# Altium footprint library heatsink.PCBLIB: 35 footprints (part 2 of 3)
Each footprint in its own frame and in the unit in brackets; x right, y up, seen from the top. Pads: shape width x height; smd on the part's side, far side on the other; paste and mask are expansions set on the pad; w line width, h text height; cw(c..) or ccw(c..) is an arc to the next point about the centre after c.
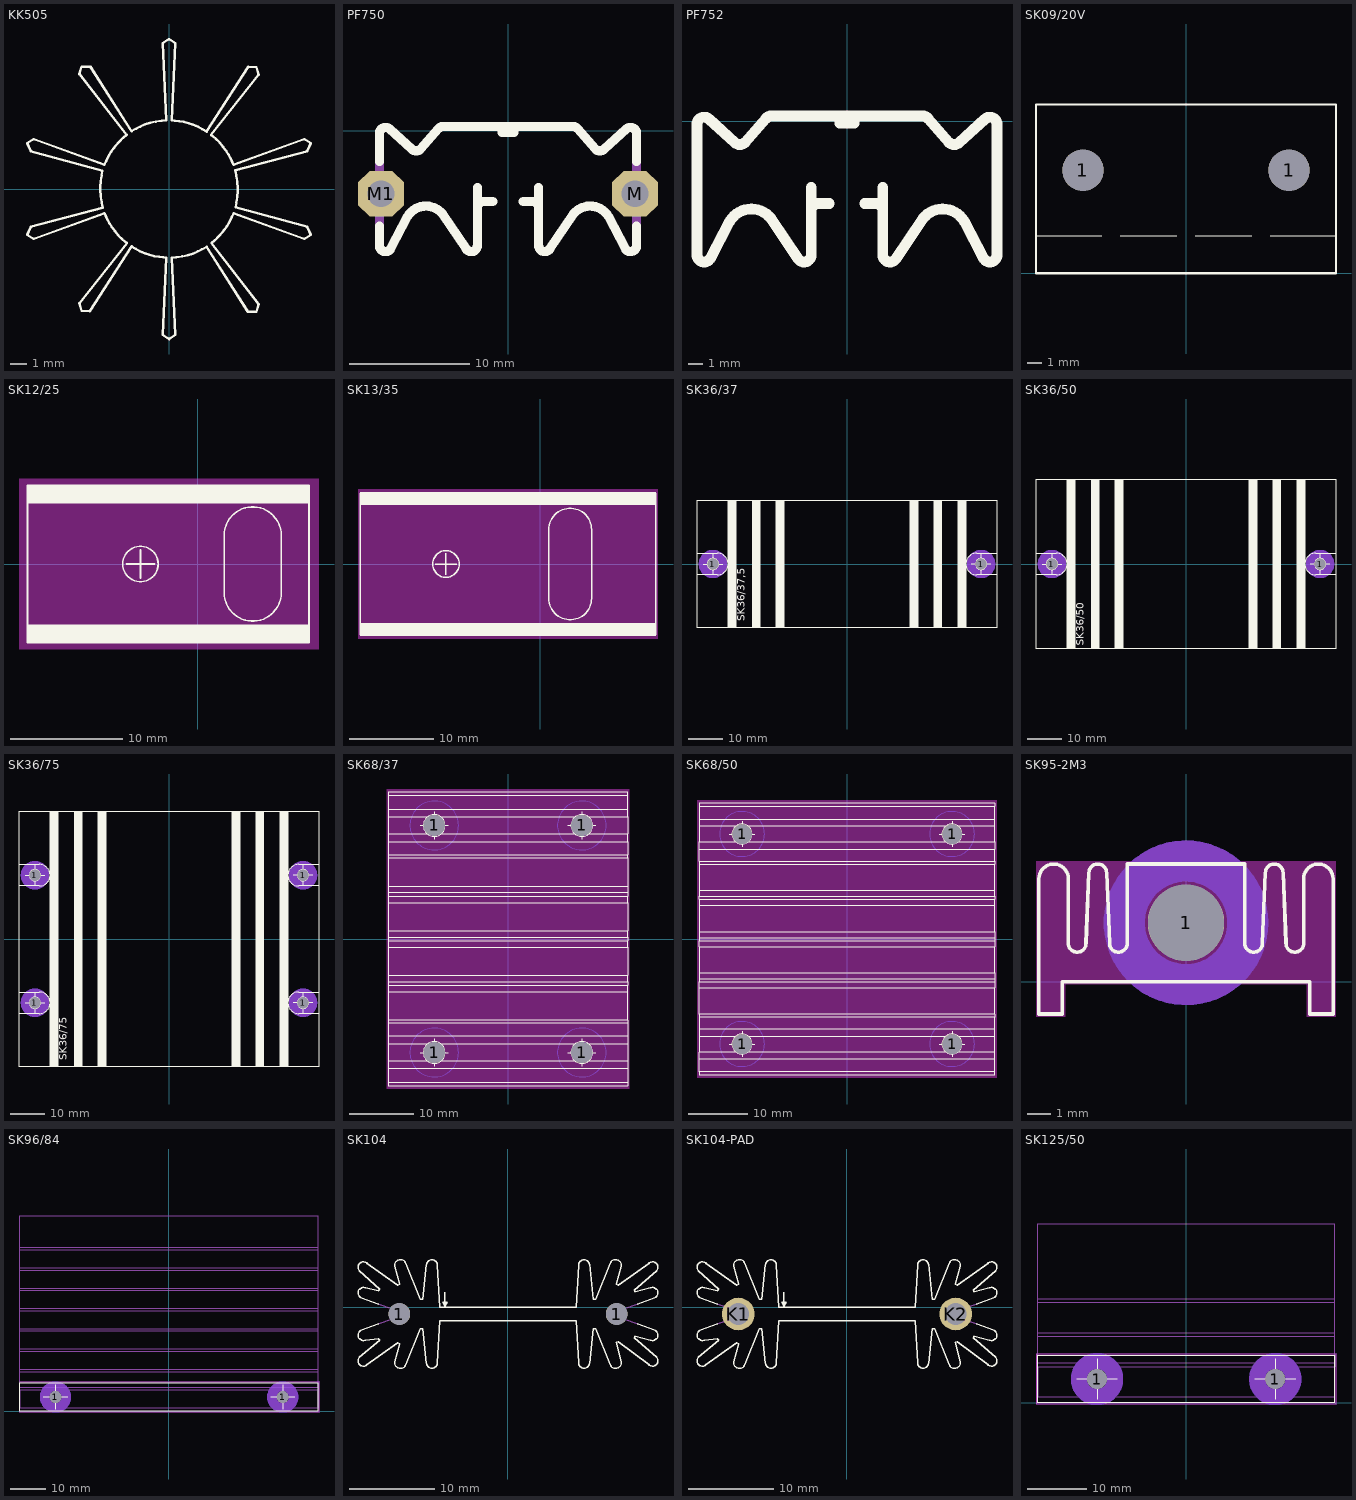
[diagram p1: the footprints below, top view; thin cyan lines are the x and y axes]

## KK505 [mil]
Top Overlay:
  lines w6: -340,-110 -325,-120 -155,-58 -152,-64 -148,-73 -143,-82 -137,-92 -130,-101 -122,-111 -112,-121 -101,-130 -215,-274 -210,-292 -190,-293 -90,-138 -80,-144 -70,-149 -58,-154 -47,-158 -35,-161 -24,-163 -14,-164 -7,-165 -15,-350 0,-360 15,-350 7,-165 17,-164 32,-162 45,-159 57,-155 69,-150 79,-145 90,-139 189,-294 210,-294 215,-276 102,-130 110,-123 120,-113 129,-103 139,-89 146,-77 151,-67 155,-58 325,-120 340,-110 332,-91 160,-44 162,-32 164,-18 165,-6 165,2 164,17 162,31 160,40 159,45 332,91 340,110 325,120 155,58 152,64 148,73 143,82 137,92 130,101 122,111 112,121 101,130 215,274 210,292 190,293 90,138 80,144 70,149 58,154 47,158 35,161 24,163 14,164 7,165 15,350 0,360 -15,350 -7,165 -17,164 -32,162 -45,159 -57,155 -69,150 -79,145 -90,139 -189,294 -210,294 -215,276 -102,130 -110,123 -120,113 -129,103 -139,89 -146,77 -151,67 -155,58 -325,120 -340,110 -332,91 -160,44 -162,32 -164,18 -165,6 -165,-2 -164,-17 -162,-31 -160,-40 -159,-45 -332,-91 -340,-110

## PF750 [mil]
pads (2):
  oct 150x150 hole 87: M(415,-205) M1(-415,-205)
Top Overlay:
  lines w30: -420,-310 -420,-373.94 ccw(c-399.99,-373.94) -383.35,-385.04 -327.8,-278.95 cw(c-268.03,-315.4) -212.84,-272.35 -136.64,-385.04 ccw(c-120,-373.94) -99.99,-373.94 -100,-185 ; -420,-100 -420,-8.28 cw(c-400,-8.28) -385.86,5.86 -314.14,-59.14 ccw(c-300,-45) -285.86,-59.14 -226.57,8.21 cw(c-211.55,-5) -211.56,15 211.56,15 cw(c211.55,-5) 226.57,8.21 285.86,-59.14 ccw(c300,-45) 314.14,-59.14 385.86,5.86 cw(c400,-8.28) 420,-8.28 420,-100 ; -100,-250 cw(c-80,-250) -80,-230 -50,-230 ; -20,10 -20,-5 20,-5 20,10 ; 50,-230 80,-230 cw(c80,-250) 100,-250 ; 100,-185 100,-373.94 ccw(c120,-373.95) 136.63,-385.04 212.84,-272.35 cw(c268.03,-315.4) 327.79,-278.95 383.36,-385.04 ccw(c399.99,-373.94) 419.99,-373.94 420,-310
Mechanical 16:
  lines w30: -420,-310 -420,-100 ; 420,-310 420,-100

## PF752 [mil]
Top Overlay:
  lines w30: -100,-250 cw(c-80,-250) -80,-230 -50,-230 ; -100,-185 -100,-373.94 cw(c-120,-373.94) -136.64,-385.04 -212.84,-272.35 ccw(c-268.03,-315.4) -327.79,-278.95 -383.36,-385.04 cw(c-399.99,-373.94) -420,-373.94 -420,-8.28 cw(c-400,-8.28) -385.86,5.86 -314.14,-59.14 ccw(c-300,-45) -285.86,-59.14 -226.57,8.21 cw(c-211.55,-5) -211.56,15 211.56,15 cw(c211.55,-5) 226.57,8.21 285.86,-59.14 ccw(c300,-45) 314.14,-59.14 385.86,5.86 cw(c400,-8.28) 420,-8.28 420,-373.94 cw(c399.99,-373.94) 383.36,-385.04 327.8,-278.95 ccw(c268.03,-315.4) 212.84,-272.35 136.64,-385.04 cw(c120,-373.95) 100,-373.94 100,-185 ; -20,10 -20,-5 20,-5 20,10 ; 50,-230 80,-230 cw(c80,-250) 100,-250

## SK09/20V [mil]
pads (2):
  round 110 hole 110: 1(-275,275) 1(275,275)
Top Overlay:
  lines w2: -400,100 -225,100 ; -175,100 -25,100 ; 25,100 175,100 ; 225,100 400,100
  lines w6: -400,0 400,0 400,100 400,450 -400,450 -400,100 -400,0

## SK12/25 [mil]
Top Layer keep-out:
  rectangle: -625,-300 425,300
Top Overlay:
  circle w6: c-200,0 r62
  rectangle: -595,215 390,275
  rectangle: -595,-275 390,-215
  lines w6: -250,0 -150,0 ; -200,-50 -200,50 ; 93,99 93,-100 ccw(c193,-100) 293,-100 293,99 ; 93,100 cw(c193,100) 293,100 ; -595,-215 -595,-275 390,-275 390,-215 ; -595,-215 390,-215 ; -595,-215 -595,215 ; -595,215 -595,275 390,275 390,215 ; -595,215 390,215 ; 390,-215 390,215
Via Holes:
  rectangle: -625,-300 425,300

## SK13/35 [mil]
Top Layer keep-out:
  rectangle: -850,-350 550,350
Top Overlay:
  circle w6: c-440,0 r62
  rectangle: -840,-335 540,-275
  rectangle: -840,275 540,335
  lines w6: -840,-330 -840,330 ; -490,0 -390,0 ; -440,-50 -440,50 ; 540,-330 540,330 ; 40,-160 40,160 cw(c140,160) 240,160 240,-160 cw(c140,-160) 40,-160
Via Holes:
  rectangle: -850,-350 550,350

## SK36/37 [mil]
pads (2):
  round 130 hole 130: 1(-1555,0) 1(1555,0)
Bottom Layer keep-out:
  circle w100: c-1555,0 r115
  circle w100: c1555,0 r115
Top Overlay:
  circle w6: c-1555,0 r65
  circle w6: c1555,0 r65
  rectangle: -1375,-740 -1285,740
  rectangle: -1095,-740 -1005,740
  rectangle: -820,-740 -730,740
  rectangle: 730,-740 820,740
  rectangle: 1005,-740 1095,740
  rectangle: 1285,-740 1375,740
  lines w6: -1665,0 -1440,0 ; -1555,-115 -1555,115 ; 1440,0 1665,0 ; 1555,-115 1555,115 ; -1735,-125 -1735,-740 -1375,-740 ; -1735,-125 -1735,125 ; -1735,-125 -1505,-125 ccw(c-1505,0) -1505,125 -1735,125 ; -1735,125 -1735,740 -1375,740 ; -1375,-740 -1285,-740 ; -1375,-740 -1375,740 ; -1375,740 -1285,740 ; -1285,-740 -1095,-740 ; -1285,-740 -1285,740 ; -1285,740 -1095,740 ; -1095,-740 -1005,-740 ; -1095,-740 -1095,740 ; -1095,740 -1005,740 ; -1005,-740 -820,-740 ; -1005,-740 -1005,740 ; -1005,740 -820,740 ; -820,-740 -730,-740 ; -820,-740 -820,740 ; -820,740 -730,740 ; -730,-740 730,-740 ; -730,-740 -730,740 ; -730,740 730,740 ; 730,-740 820,-740 ; 730,-740 730,740 ; 730,740 820,740 ; 820,-740 1005,-740 ; 820,-740 820,740 ; 820,740 1005,740 ; 1005,-740 1095,-740 ; 1005,-740 1005,740 ; 1005,740 1095,740 ; 1095,-740 1285,-740 ; 1095,-740 1095,740 ; 1095,740 1285,740 ; 1285,-740 1375,-740 ; 1285,-740 1285,740 ; 1285,740 1375,740 ; 1375,-740 1735,-740 1735,-125 ; 1375,-740 1375,740 ; 1375,740 1735,740 1735,125 ; 1735,-125 1735,125 ; 1735,-125 1505,-125 cw(c1505,0) 1505,125 1735,125
  text "SK36/37,5" at -1150,-665 h155
Via Holes:
  lines w5: -1740,-745 -1740,745 -725,745 -725,-745 -1740,-745 ; 725,-745 725,745 1740,745 1740,-745 725,-745

## SK36/50 [mil]
pads (2):
  round 130 hole 130: 1(-1555,0) 1(1555,0)
Bottom Layer keep-out:
  circle w100: c-1555,0 r115
  circle w100: c1555,0 r115
Top Overlay:
  circle w6: c-1555,0 r65
  circle w6: c1555,0 r65
  rectangle: -1375,-985 -1285,985
  rectangle: -1095,-985 -1005,985
  rectangle: -820,-985 -730,985
  rectangle: 730,-985 820,985
  rectangle: 1005,-985 1095,985
  rectangle: 1285,-985 1375,985
  lines w6: -1665,0 -1440,0 ; -1555,-115 -1555,115 ; 1440,0 1665,0 ; 1555,-115 1555,115 ; -1735,-125 -1735,-985 -1375,-985 ; -1735,-125 -1735,125 ; -1735,-125 -1505,-125 ccw(c-1505,0) -1505,125 -1735,125 ; -1735,125 -1735,985 -1375,985 ; -1375,-985 -1285,-985 ; -1375,-985 -1375,985 ; -1375,985 -1285,985 ; -1285,-985 -1095,-985 ; -1285,-985 -1285,985 ; -1285,985 -1095,985 ; -1095,-985 -1005,-985 ; -1095,-985 -1095,985 ; -1095,985 -1005,985 ; -1005,-985 -820,-985 ; -1005,-985 -1005,985 ; -1005,985 -820,985 ; -820,-985 -730,-985 ; -820,-985 -820,985 ; -820,985 -730,985 ; -730,-985 730,-985 ; -730,-985 -730,985 ; -730,985 730,985 ; 730,-985 820,-985 ; 730,-985 730,985 ; 730,985 820,985 ; 820,-985 1005,-985 ; 820,-985 820,985 ; 820,985 1005,985 ; 1005,-985 1095,-985 ; 1005,-985 1005,985 ; 1005,985 1095,985 ; 1095,-985 1285,-985 ; 1095,-985 1095,985 ; 1095,985 1285,985 ; 1285,-985 1375,-985 ; 1285,-985 1285,985 ; 1285,985 1375,985 ; 1375,-985 1735,-985 1735,-125 ; 1375,-985 1375,985 ; 1375,985 1735,985 1735,125 ; 1735,-125 1735,125 ; 1735,-125 1505,-125 cw(c1505,0) 1505,125 1735,125
  text "SK36/50" at -1150,-950 h155
Via Holes:
  lines w5: -1740,-990 -1740,990 -725,990 -725,-990 -1740,-990 ; 725,-990 1740,-990 1740,990 725,990 725,-990

## SK36/75 [mil]
pads (4):
  round 130 hole 130: 1(-1555,-740) 1(-1555,740) 1(1555,-740) 1(1555,740)
Bottom Layer keep-out:
  circle w100: c-1555,740 r115
  circle w100: c1555,740 r115
  circle w100: c-1555,-740 r115
  circle w100: c1555,-740 r115
Top Overlay:
  circle w6: c-1555,740 r65
  circle w6: c1555,740 r65
  circle w6: c-1555,-740 r65
  circle w6: c1555,-740 r65
  rectangle: -1375,-1480 -1285,1480
  rectangle: -1095,-1480 -1005,1480
  rectangle: -820,-1480 -730,1480
  rectangle: 730,-1480 820,1480
  rectangle: 1005,-1480 1095,1480
  rectangle: 1285,-1480 1375,1480
  lines w6: -1665,-740 -1440,-740 ; -1665,740 -1440,740 ; -1555,-855 -1555,-625 ; -1555,625 -1555,855 ; 1440,-740 1665,-740 ; 1440,740 1665,740 ; 1555,-855 1555,-625 ; 1555,625 1555,855 ; -1735,-865 -1735,-1480 -1375,-1480 ; -1735,-865 -1735,-615 ; -1735,-865 -1505,-865 ccw(c-1505,-740) -1505,-615 -1735,-615 ; -1735,-615 -1735,615 ; -1735,615 -1735,865 ; -1735,615 -1505,615 ccw(c-1505,740) -1505,865 -1735,865 ; -1735,865 -1735,1480 -1375,1480 ; -1375,-1480 -1285,-1480 ; -1375,-1480 -1375,1480 ; -1375,1480 -1285,1480 ; -1285,-1480 -1095,-1480 ; -1285,-1480 -1285,1480 ; -1285,1480 -1095,1480 ; -1095,-1480 -1005,-1480 ; -1095,-1480 -1095,1480 ; -1095,1480 -1005,1480 ; -1005,-1480 -820,-1480 ; -1005,-1480 -1005,1480 ; -1005,1480 -820,1480 ; -820,-1480 -730,-1480 ; -820,-1480 -820,1480 ; -820,1480 -730,1480 ; -730,-1480 730,-1480 ; -730,-1480 -730,1480 ; -730,1480 730,1480 ; 730,-1480 820,-1480 ; 730,-1480 730,1480 ; 730,1480 820,1480 ; 820,-1480 1005,-1480 ; 820,-1480 820,1480 ; 820,1480 1005,1480 ; 1005,-1480 1095,-1480 ; 1005,-1480 1005,1480 ; 1005,1480 1095,1480 ; 1095,-1480 1285,-1480 ; 1095,-1480 1095,1480 ; 1095,1480 1285,1480 ; 1285,-1480 1375,-1480 ; 1285,-1480 1285,1480 ; 1285,1480 1375,1480 ; 1375,-1480 1735,-1480 1735,-865 ; 1375,-1480 1375,1480 ; 1375,1480 1735,1480 1735,865 ; 1735,-865 1735,-615 ; 1735,-865 1505,-865 cw(c1505,-740) 1505,-615 1735,-615 ; 1735,-615 1735,615 ; 1735,615 1735,865 ; 1735,615 1505,615 cw(c1505,740) 1505,865 1735,865
  text "SK36/75" at -1150,-1405 h155
Via Holes:
  lines w5: -1740,-5 -1740,5 ; -725,-5 -725,5 ; 725,-5 725,5 ; 1740,-5 1740,5 ; -1740,5 -1740,1485 -725,1485 -725,5 ; -1740,5 -1740,-1485 -725,-1485 -725,5 ; 725,5 725,1485 1740,1485 1740,5 ; 725,5 725,-1485 1740,-1485 1740,5

## SK68/37 [mil]
pads (4):
  round 130 hole 130: 1(-455,-700) 1(-455,700) 1(455,-700) 1(455,700)
Top Layer keep-out:
  rectangle: -750,-925 750,925
Bottom Layer keep-out:
  circle w0: c455,700 r150
  circle w0: c455,-700 r150
  circle w0: c-455,-700 r150
  circle w0: c-455,700 r150
Top Overlay:
  circle w6: c455,700 r67
  circle w6: c455,-700 r67
  circle w6: c-455,-700 r67
  circle w6: c-455,700 r67
  lines w2: -740,-885 740,-885 ; -740,-800 740,-800 ; -740,-600 740,-600 ; -740,-520 740,-520 ; -740,-285 740,-285 ; -740,-265 740,-265 ; -740,-10 740,-10 ; -740,10 740,10 ; -740,265 740,265 ; -740,285 740,285 ; -740,520 740,520 ; -740,600 740,600 ; -740,800 740,800 ; -740,885 740,885 ; -540,-700 -370,-700 ; -540,700 -370,700 ; -455,-785 -455,-615 ; -455,615 -455,785 ; 370,-700 540,-700 ; 370,700 540,700 ; 455,-785 455,-615 ; 455,615 455,785
  lines w6: -740,-755 740,-755 ; -740,-755 -740,-800 -740,-885 -740,-905 740,-905 740,-885 740,-800 740,-755 ; -740,-755 -740,-650 ; -740,-650 740,-650 ; -740,-650 -740,-600 -740,-520 -740,-500 ; -740,-500 740,-500 ; -740,-500 -740,-325 ; -740,-325 740,-325 ; -740,-325 -740,-285 -740,-265 -740,-225 ; -740,-225 740,-225 ; -740,-225 -740,-50 ; -740,-50 740,-50 ; -740,-50 -740,-10 -740,10 -740,50 ; -740,50 740,50 ; -740,50 -740,225 ; -740,225 -740,265 -740,285 -740,325 ; -740,225 740,225 ; -740,325 740,325 ; -740,325 -740,500 ; -740,500 -740,520 -740,600 -740,650 ; -740,500 740,500 ; -740,650 -740,755 ; -740,650 740,650 ; -740,755 740,755 ; -740,755 -740,800 -740,885 -740,905 740,905 740,885 740,800 740,755 ; 740,-755 740,-650 ; 740,-650 740,-600 740,-520 740,-500 ; 740,-500 740,-325 ; 740,-325 740,-285 740,-265 740,-225 ; 740,-225 740,-50 ; 740,-50 740,-10 740,10 740,50 ; 740,50 740,225 ; 740,225 740,265 740,285 740,325 ; 740,325 740,500 ; 740,500 740,520 740,600 740,650 ; 740,650 740,755
Mechanical 16:
  text "SK68/37" at -700,-475 h155
Via Holes:
  rectangle: -750,-925 750,925

## SK68/50 [mil]
pads (4):
  round 130 hole 130: 1(-700,-700) 1(-700,700) 1(700,-700) 1(700,700)
Top Layer keep-out:
  rectangle: -1000,-925 1000,925
Bottom Layer keep-out:
  circle w0: c700,700 r150
  circle w0: c700,-700 r150
  circle w0: c-700,-700 r150
  circle w0: c-700,700 r150
Top Overlay:
  circle w2: c700,700 r67
  circle w2: c700,-700 r67
  circle w2: c-700,-700 r67
  circle w2: c-700,700 r67
  lines w2: -985,-885 985,-885 ; -985,-800 985,-800 ; -985,-600 985,-600 ; -985,-520 985,-520 ; -985,-285 985,-285 ; -985,-265 985,-265 ; -985,-10 985,-10 ; -985,10 985,10 ; -985,265 985,265 ; -985,285 985,285 ; -985,520 985,520 ; -985,600 985,600 ; -985,800 985,800 ; -985,885 985,885 ; -785,-700 -615,-700 ; -785,700 -615,700 ; -700,-785 -700,-615 ; -700,615 -700,785 ; 615,-700 785,-700 ; 615,700 785,700 ; 700,-785 700,-615 ; 700,615 700,785
  lines w6: -985,-755 985,-755 ; -985,-755 -985,-800 -985,-885 -985,-905 985,-905 985,-885 985,-800 985,-755 ; -985,-755 -985,-650 ; -985,-650 985,-650 ; -985,-650 -985,-600 -985,-520 -985,-500 ; -985,-500 985,-500 ; -985,-500 -985,-325 ; -985,-325 985,-325 ; -985,-325 -985,-285 -985,-265 -985,-225 ; -985,-225 985,-225 ; -985,-225 -985,-50 ; -985,-50 985,-50 ; -985,-50 -985,-10 -985,10 -985,50 ; -985,50 985,50 ; -985,50 -985,225 ; -985,225 985,225 ; -985,225 -985,265 -985,285 -985,325 ; -985,325 985,325 ; -985,325 -985,500 ; -985,500 985,500 ; -985,500 -985,520 -985,600 -985,650 ; -985,650 985,650 ; -985,650 -985,755 ; -985,755 985,755 ; -985,755 -985,800 -985,885 -985,905 985,905 985,885 985,800 985,755 ; 985,-755 985,-650 ; 985,-650 985,-600 985,-520 985,-500 ; 985,-500 985,-325 ; 985,-325 985,-285 985,-265 985,-225 ; 985,-225 985,-50 ; 985,-50 985,-10 985,10 985,50 ; 985,50 985,225 ; 985,225 985,265 985,285 985,325 ; 985,325 985,500 ; 985,500 985,520 985,600 985,650 ; 985,650 985,755
Mechanical 16:
  text "SK68/50" at -950,-475 h155
Via Holes:
  rectangle: -1000,-925 1000,925

## SK95-2M3 [mil]
pads (1):
  round 130 hole 130: 1(0,100)
Top Layer keep-out:
  rectangle: -255,-60 -205,205
  rectangle: -215,-5 215,205
  rectangle: 205,-60 255,205
Bottom Layer keep-out:
  circle w70: c0,100 r105
Top Overlay:
  lines w6: -250,-55 -250,175 cw(c-225,175) -200,175 -200,65 ccw(c-185,65) -170,65 -165,185 cw(c-150,185) -135,185 -130,65 ccw(c-115,65) -100,65 -100,200 100,200 100,65 ccw(c115,65) 130,65 135,185 cw(c150,185) 165,185 170,65 ccw(c185,65) 200,65 200,175 cw(c225,175) 250,175 250,-55 210,-55 210,0 -210,0 -210,-55 -250,-55
Via Holes:
  rectangle: -255,-60 -205,205
  rectangle: -215,-5 215,205
  rectangle: 205,-60 255,205

## SK96/84 [mil]
pads (2):
  round 130 hole 130: 1(-1256,157) 1(1263,157)
Top Layer keep-out:
  lines w5: -1660,-10 -1660,325 1665,325 1665,-10 -1660,-10
Bottom Layer keep-out:
  circle w106: c-1256,157 r120
  circle w106: c1263,157 r120
Top Overlay:
  lines w6: -1391,157 -1121,157 ; -1256,22 -1256,292 ; 1128,157 1398,157 ; 1263,22 1263,292 ; -1650,0 1657,0 1657,315 -1650,315 -1650,0
Mechanical 16:
  lines w6: 1657,315 1657,265 ; -1650,240 1657,240 ; -1650,240 -1650,40 1657,40 1657,240 ; -1650,240 -1650,265 ; -1650,265 1657,265 ; -1650,265 -1650,440 ; -1650,440 1657,440 ; -1650,440 -1650,465 ; -1650,465 1657,465 ; -1650,465 -1650,665 ; -1650,665 1657,665 ; -1650,665 -1650,690 ; -1650,690 1657,690 ; -1650,690 -1650,890 ; -1650,890 1657,890 ; -1650,890 -1650,915 ; -1650,915 1657,915 ; -1650,915 -1650,1115 ; -1650,1115 1657,1115 ; -1650,1115 -1650,1140 ; -1650,1140 1657,1140 ; -1650,1140 -1650,1340 ; -1650,1340 1657,1340 ; -1650,1340 -1650,1365 ; -1650,1365 1657,1365 ; -1650,1365 -1650,1565 ; -1650,1565 1657,1565 ; -1650,1565 -1650,1590 ; -1650,1590 1657,1590 ; -1650,1590 -1650,1790 ; -1650,1790 1657,1790 ; -1650,1790 -1650,1815 ; -1650,1815 1657,1815 ; -1650,1815 -1650,2165 1657,2165 1657,1815 ; 1657,240 1657,265 ; 1657,265 1657,440 ; 1657,440 1657,465 ; 1657,465 1657,665 ; 1657,665 1657,690 ; 1657,690 1657,890 ; 1657,890 1657,915 ; 1657,915 1657,1115 ; 1657,1115 1657,1140 ; 1657,1140 1657,1340 ; 1657,1340 1657,1365 ; 1657,1365 1657,1565 ; 1657,1565 1657,1590 ; 1657,1590 1657,1790 ; 1657,1790 1657,1815
Via Holes:
  lines w5: -1660,-10 -1660,325 1665,325 1665,-10 -1655,-10
Mechanical 27:
  lines w5: -1660,-10 -1660,325 1665,325 1665,-10 -1660,-10

## SK104 [mil]
pads (2):
  round 100 hole 100: 1(-500,-30) 1(500,-30)
Top Overlay:
  lines w6: -677,-105 -595,-75 ; -677,45 -595,15 ; -675.38,-104.17 ccw(c-665,-127) -655,-149.99 -596,-143 -591,-150 -685,-230 ccw(c-665,-245) -645,-260 ; -675.38,44.17 cw(c-665,67) -655,89.99 -596,78 -591,85 -685,170 cw(c-665,185) -645,200 ; -649,-264 -507,-162 -499,-166 -522,-250 ; -649,204 -507,102 -499,106 -522,190 ; -521.56,-248.57 ccw(c-495,-253) -469.99,-263 -404,-97 -393,-97 -375,-257 ; -521.56,188.57 cw(c-495,193) -469.99,203 -404,37 -393,37 -375,197 ; -375,-255 ccw(c-350,-255) -325,-255 -315,-60 315,-60 325,-255 ccw(c350,-255) 375,-255 ; -375,195 cw(c-350,195) -325,195 -315,0 315,0 325,195 cw(c350,195) 375,195 ; -290,70 -290,10 ; 375,-256 393,-97 404,-97 470,-263 ccw(c495,-253) 521.55,-248.57 ; 375,198 393,37 404,37 470,203 cw(c495,193) 521.55,188.57 ; 522,-250 499,-161 507,-157 649,-264 ; 522,190 499,106 507,102 649,204 ; 595,-75 677,-105 ; 595,15 676,45 ; 645,-260 ccw(c665,-245) 685,-230 581,-140 586,-133 655,-150 ccw(c665,-127) 675.38,-104.16 ; 645,200 cw(c665,185) 685,170 581,80 586,73 655,90 cw(c665,67) 675.38,44.16 ; -295,25 -300,25 -290,5 ; -295,25 -285,25 ; -295,25 -290,10 ; -290,5 -280,25 -285,25 ; -290,5 -285,25 ; -290,5 -290,10
Mechanical 16:
  lines w6: -595,-75 -535,-55 ccw(c-500,-30) -535,-5 -595,15 ; 535,-55 595,-75 ; 535.78,-53.85 cw(c500,-29.99) 535,-5 595,15

## SK104-PAD [mil]
pads (2):
  round 150 hole 100: K1(-500,-30) K2(500,-30)
Top Overlay:
  lines w6: -677,-105 -595,-75 ; -677,45 -595,15 ; -675.38,-104.17 ccw(c-665,-127) -655,-149.99 -596,-143 -591,-150 -685,-230 ccw(c-665,-245) -645,-260 ; -675.38,44.17 cw(c-665,67) -655,89.99 -596,78 -591,85 -685,170 cw(c-665,185) -645,200 ; -649,-264 -507,-162 -499,-166 -522,-250 ; -649,204 -507,102 -499,106 -522,190 ; -521.56,-248.57 ccw(c-495,-253) -469.99,-263 -404,-97 -393,-97 -375,-257 ; -521.56,188.57 cw(c-495,193) -469.99,203 -404,37 -393,37 -375,197 ; -375,-255 ccw(c-350,-255) -325,-255 -315,-60 315,-60 325,-255 ccw(c350,-255) 375,-255 ; -375,195 cw(c-350,195) -325,195 -315,0 315,0 325,195 cw(c350,195) 375,195 ; -290,70 -290,10 ; 375,-256 393,-97 404,-97 470,-263 ccw(c495,-253) 521.55,-248.57 ; 375,198 393,37 404,37 470,203 cw(c495,193) 521.55,188.57 ; 522,-250 499,-161 507,-157 649,-264 ; 522,190 499,106 507,102 649,204 ; 595,-75 677,-105 ; 595,15 676,45 ; 645,-260 ccw(c665,-245) 685,-230 581,-140 586,-133 655,-150 ccw(c665,-127) 675.38,-104.16 ; 645,200 cw(c665,185) 685,170 581,80 586,73 655,90 cw(c665,67) 675.38,44.16 ; -295,25 -300,25 -290,5 ; -295,25 -285,25 ; -295,25 -290,10 ; -290,5 -280,25 -285,25 ; -290,5 -285,25 ; -290,5 -290,10
Mechanical 16:
  lines w6: -595,-75 -535,-55 ccw(c-500,-30) -535,-5 -595,15 ; 535,-55 595,-75 ; 535.78,-53.85 cw(c500,-29.99) 535,-5 595,15

## SK125/50 [mil]
pads (2):
  round 130 hole 130: 1(-591,157) 1(588,157)
Top Layer keep-out:
  lines w5: -995,-10 -995,325 990,325 990,-10 -995,-10
Bottom Layer keep-out:
  circle w106: c-591,157 r120
  circle w106: c588,157 r120
Top Overlay:
  lines w2: -726,157 -456,157 ; -591,22 -591,292 ; 453,157 723,157 ; 588,22 588,292
  lines w6: -985,0 982,0 982,315 -985,315 -985,0
Mechanical 16:
  lines w6: 982,315 982,265 ; -985,240 982,240 ; -985,240 -985,40 982,40 982,240 ; -985,240 -985,265 ; -985,265 982,265 ; -985,265 -985,440 ; -985,440 982,440 ; -985,440 -985,465 ; -985,465 982,465 ; -985,465 -985,665 ; -985,665 982,665 ; -985,665 -985,690 ; -985,690 982,690 ; -985,690 -985,1185 982,1185 982,690 ; 982,240 982,265 ; 982,265 982,440 ; 982,440 982,465 ; 982,465 982,665 ; 982,665 982,690
  text "SK125/50" at -960,1050 h155
Via Holes:
  lines w5: -995,-10 -995,325 990,325 990,-10 -990,-10
Mechanical 27:
  lines w5: -995,-10 -995,325 990,325 990,-10 -995,-10